# Altium schematic symbol library Schlib1.SchLib: 1 symbol
Pins are listed as number, name and electrical type; pins without a type are passive.

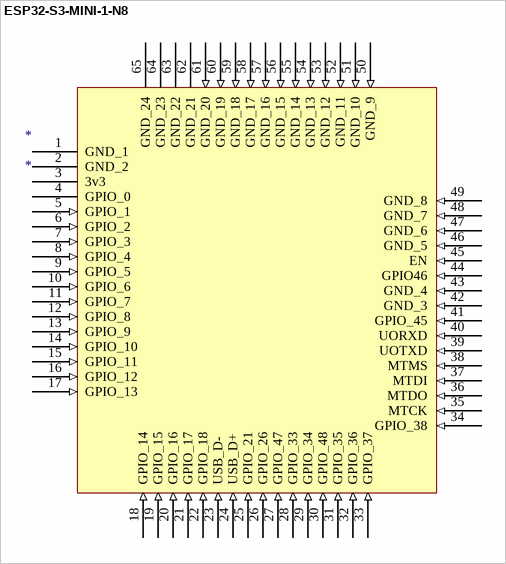
[diagram p0: symbol ESP32-S3-MINI-1-N8]

## ESP32-S3-MINI-1-N8
designator *
SMD module, ESP32-S3FN8, 8 MB SPI flash, PCB antenna; Manufacturer: Espressif Systems; Manufacturer Part Number: ESP32-S3-MINI-1-N8; Supplier: Mouser; Supplier Part Number: 356-ESP32-S3-MINI1N8; RoHS: No; Category: LDO; Stock: 1437; Pricing: 1=3.1, 10=3.1, 50=3.1, 100=3.1, 650=3.1, 1000=3.1, 10000=3.1 (USD); ComponentLink1URL: https://datasheet.octopart.com/ESP32-S3-MINI-1-N8-Espressif-Systems-datasheet-165560562.pdf?src-supplier=TME; ComponentLink1Description: https://datasheet.octopart.com/ESP32-S3-MINI-1-N8-Espressif-Systems-datasheet-165560562.pdf?src-supplier=TME
pins: 1 GND_1, 2 GND_2, 3 3v3, 4 GPIO_0, 5 GPIO_1 (in), 6 GPIO_2 (in), 7 GPIO_3 (in), 8 GPIO_4 (in), 9 GPIO_5 (in), 10 GPIO_6 (in), 11 GPIO_7 (in), 12 GPIO_8 (in), 13 GPIO_9 (in), 14 GPIO_10 (in), 15 GPIO_11 (in), 16 GPIO_12 (in), 17 GPIO_13 (in), 18 GPIO_14 (in), 19 GPIO_15 (in), 20 GPIO_16 (in), 21 GPIO_17 (in), 22 GPIO_18 (in), 23 USB_D- (in), 24 USB_D+ (in), 25 GPIO_21 (in), 26 GPIO_26 (in), 27 GPIO_47 (in), 28 GPIO_33 (in), 29 GPIO_34 (in), 30 GPIO_48 (in), 31 GPIO_35 (in), 32 GPIO_36 (in), 33 GPIO_37 (in), 34 GPIO_38 (in), 35 MTCK (in), 36 MTDO (in), 37 MTDI (in), 38 MTMS (in), 39 UOTXD (in), 40 UORXD (in), 41 GPIO_45 (in), 42 GND_3 (in), 43 GND_4 (in), 44 GPIO46 (in), 45 EN (in), 46 GND_5 (in), 47 GND_6 (in), 48 GND_7 (in), 49 GND_8 (in), 50 GND_9 (in), 51 GND_10 (in), 52 GND_11 (in), 53 GND_12 (in), 54 GND_13 (in), 55 GND_14 (in), 56 GND_15 (in), 57 GND_16 (in), 58 GND_17 (in), 59 GND_18 (in), 60 GND_19 (in), 61 GND_20 (in), 62 GND_21, 63 GND_22, 64 GND_23, 65 GND_24